# Altium footprint library Connectors-WR-PHD_Pin Header.PcbLib: 232 footprints (part 1 of 15)
Each footprint in its own frame and in the unit in brackets; x right, y up, seen from the top. Pads: shape width x height; smd on the part's side, far side on the other; paste and mask are expansions set on the pad; w line width, h text height; cw(c..) or ccw(c..) is an arc to the next point about the centre after c.
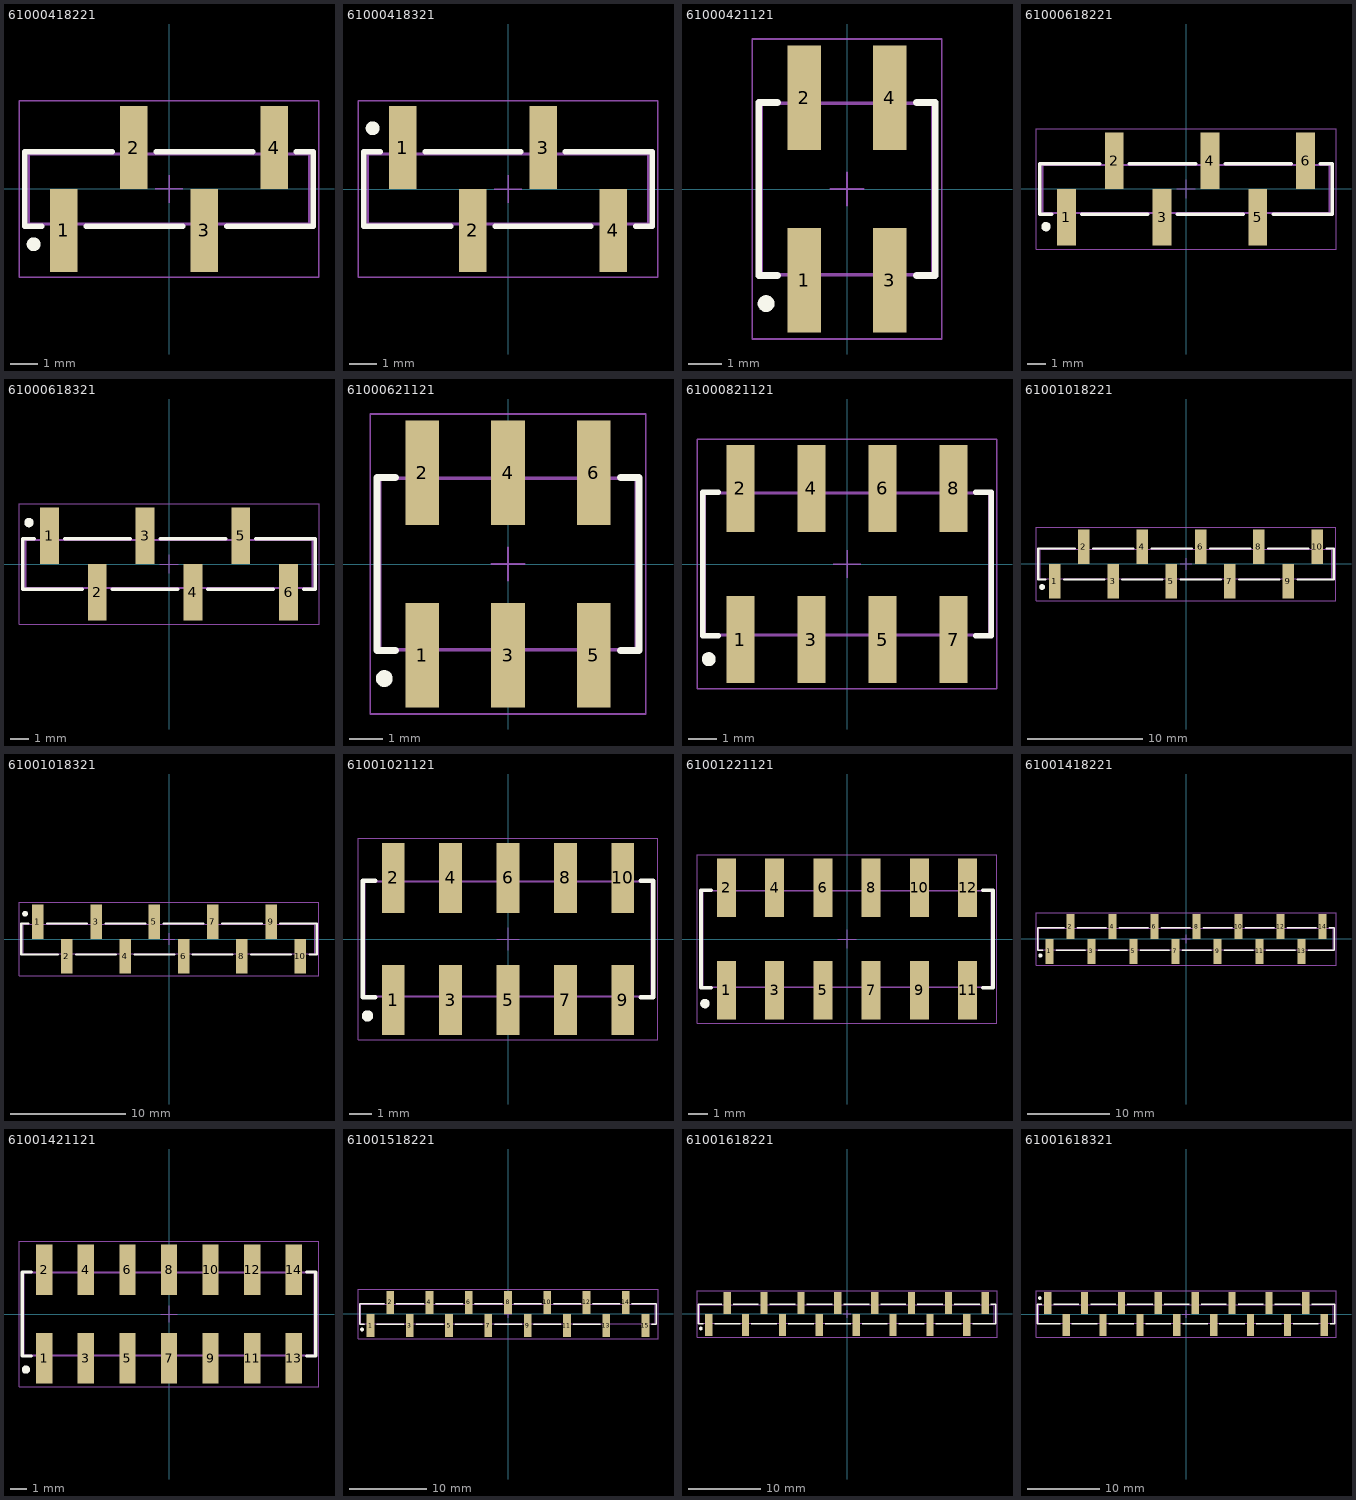
[diagram p0: the footprints below, top view; thin cyan lines are the x and y axes]

## 61000418221 [mm] "Pin Header, pitch 2.54 mm, SMD, Vertical, single row, 4p"
height 9.3
pads (4):
  rect 1x3 smd: 1(-3.81,-1.5) 2(-1.27,1.5) 3(1.27,-1.5) 4(3.81,1.5)
Top Overlay:
  circle w0.25: c-4.9,-2 r0.125
  lines w0.2: -4.6,-1.345 -5.23,-1.345 -5.23,1.345 -2.05,1.345 ; -3,-1.345 0.5,-1.345 ; -0.46,1.345 3.04,1.345 ; 2.1,-1.345 5.23,-1.345 5.23,1.345 4.6,1.345
Top Designator:
  text ".Designator" at -7.498,-0.5 h1.5
Top Component Outline:
  lines w0.1: -4.13,-1.27 -4.13,-2.5 -3.49,-2.5 -3.49,-1.27 ; -1.59,1.27 -1.59,2.5 -0.95,2.5 -0.95,1.27 ; 0.95,-1.27 0.95,-2.5 1.59,-2.5 1.59,-1.27 ; 3.49,1.27 3.49,2.5 4.13,2.5 4.13,1.27 ; -5.08,-1.27 -5.08,1.27 5.08,1.27 5.08,-1.27 -5.08,-1.27
Top Courtyard:
  lines w0.05: -5.43,-3.2 -5.43,3.2 5.43,3.2 5.43,-3.2 -5.43,-3.2
Top Component Center:
  lines w0.05: -0.5,0 0.5,0 ; 0,-0.5 0,0.5
3D body "61000418221.stp": height 9.33, standoff 0, extent -5.08,-2.5 5.08,2.5

## 61000418321 [mm] "Pin Header, pitch 2.54 mm, SMD, Vertical, single row, 4p"
height 9.3
pads (4):
  rect 1x3 smd: 1(-3.81,1.5) 2(-1.27,-1.5) 3(1.27,1.5) 4(3.81,-1.5)
Top Overlay:
  circle w0.25: c-4.9,2.2 r0.125
  lines w0.2: -4.63,1.345 -5.23,1.345 -5.23,-1.345 -2.07,-1.345 ; -2.99,1.345 0.47,1.345 ; -0.47,-1.345 2.99,-1.345 ; 2.07,1.345 5.23,1.345 5.23,-1.345 4.63,-1.345
Top Designator:
  text ".Designator" at -7.498,-0.5 h1.5
Top Component Outline:
  lines w0.1: -4.13,1.27 -4.13,2.5 -3.49,2.5 -3.49,1.27 ; -1.59,-1.27 -1.59,-2.5 -0.95,-2.5 -0.95,-1.27 ; 0.95,1.27 0.95,2.5 1.59,2.5 1.59,1.27 ; 3.49,-1.27 3.49,-2.5 4.13,-2.5 4.13,-1.27 ; -5.08,-1.27 5.08,-1.27 5.08,1.27 -5.08,1.27 -5.08,-1.27
Top Courtyard:
  lines w0.05: -5.43,-3.2 -5.43,3.2 5.43,3.2 5.43,-3.2 -5.43,-3.2
Top Component Center:
  lines w0.05: -0.5,0 0.5,0 ; 0,-0.5 0,0.5
3D body "61000418321.stp": height 9.37, standoff 0.04, extent -5.08,-2.5 5.08,2.5

## 61000421121 [mm] "Pin Header, pitch 2.54 mm, SMD, Vertical, dual row, 4p"
height 9.6
pads (4):
  rect 1x3.1 smd: 1(-1.27,-2.7) 2(-1.27,2.7) 3(1.27,-2.7) 4(1.27,2.7)
Top Overlay:
  circle w0.25: c-2.4,-3.4 r0.125
  lines w0.2: -2.065,-2.565 -2.615,-2.565 -2.615,2.565 -2.065,2.565 ; 2.065,-2.565 2.615,-2.565 2.615,2.565 2.065,2.565
Top Designator:
  text ".Designator" at -7.498,-0.5 h1.5
Top Component Outline:
  lines w0.1: -1.59,-2.54 -1.59,-3.75 -0.95,-3.75 -0.95,-2.54 ; -1.59,2.54 -1.59,3.75 -0.95,3.75 -0.95,2.54 ; 0.95,-2.54 0.95,-3.75 1.59,-3.75 1.59,-2.54 ; 0.95,2.54 0.95,3.75 1.59,3.75 1.59,2.54 ; -2.54,-2.54 -2.54,2.54 2.54,2.54 2.54,-2.54 -2.54,-2.54
Top Courtyard:
  lines w0.05: -2.815,-4.45 -2.815,4.45 2.815,4.45 2.815,-4.45 -2.815,-4.45
Top Component Center:
  lines w0.05: -0.5,0 0.5,0 ; 0,-0.5 0,0.5
3D body "61000421121.stp": height 9.62, standoff 0.02, extent -2.54,-3.75 2.54,3.75

## 61000618221 [mm] "Pin Header, pitch 2.54 mm, SMD, Vertical, single row, 6p"
height 9.3
pads (6):
  rect 1x3 smd: 1(-6.35,-1.5) 2(-3.81,1.5) 3(-1.27,-1.5) 4(1.27,1.5) 5(3.81,-1.5) 6(6.35,1.5)
Top Overlay:
  circle w0.25: c-7.44,-2 r0.125
  lines w0.2: -7.14,-1.345 -7.77,-1.345 -7.77,1.345 -4.59,1.345 ; -5.54,-1.345 -2.04,-1.345 ; -3,1.345 0.5,1.345 ; -0.46,-1.345 3.04,-1.345 ; 2.08,1.345 5.58,1.345 ; 4.64,-1.345 7.77,-1.345 7.77,1.345 7.14,1.345
Top Designator:
  text ".Designator" at -7.498,-0.5 h1.5
Top Component Outline:
  lines w0.1: -6.67,-1.27 -6.67,-2.5 -6.03,-2.5 -6.03,-1.27 ; -4.13,1.27 -4.13,2.5 -3.49,2.5 -3.49,1.27 ; -1.59,-1.27 -1.59,-2.5 -0.95,-2.5 -0.95,-1.27 ; 0.95,1.27 0.95,2.5 1.59,2.5 1.59,1.27 ; 3.49,-1.27 3.49,-2.5 4.13,-2.5 4.13,-1.27 ; 6.03,1.27 6.03,2.5 6.67,2.5 6.67,1.27 ; -7.62,-1.27 -7.62,1.27 7.62,1.27 7.62,-1.27 -7.62,-1.27
Top Courtyard:
  lines w0.05: -7.97,-3.2 7.97,-3.2 7.97,3.2 -7.97,3.2 -7.97,-3.2
Top Component Center:
  lines w0.05: -0.5,0 0.5,0 ; 0,-0.5 0,0.5
3D body "61000618221.stp": height 9.33, standoff 0, extent -7.62,-2.5 7.62,2.5

## 61000618321 [mm] "Pin Header, pitch 2.54 mm, SMD, Vertical, single row, 6p"
height 9.3
pads (6):
  rect 1x3 smd: 1(-6.35,1.5) 2(-3.81,-1.5) 3(-1.27,1.5) 4(1.27,-1.5) 5(3.81,1.5) 6(6.35,-1.5)
Top Overlay:
  circle w0.25: c-7.44,2.2 r0.125
  lines w0.2: -7.17,1.345 -7.77,1.345 -7.77,-1.345 -4.61,-1.345 ; -5.53,1.345 -2.07,1.345 ; -3.01,-1.345 0.45,-1.345 ; -0.45,1.345 3.01,1.345 ; 2.07,-1.345 5.53,-1.345 ; 4.61,1.345 7.77,1.345 7.77,-1.345 7.17,-1.345
Top Designator:
  text ".Designator" at -7.498,-0.5 h1.5
Top Component Outline:
  lines w0.1: -6.67,1.27 -6.67,2.5 -6.03,2.5 -6.03,1.27 ; -4.13,-1.27 -4.13,-2.5 -3.49,-2.5 -3.49,-1.27 ; -1.59,1.27 -1.59,2.5 -0.95,2.5 -0.95,1.27 ; 0.95,-1.27 0.95,-2.5 1.59,-2.5 1.59,-1.27 ; 3.49,1.27 3.49,2.5 4.13,2.5 4.13,1.27 ; 6.03,-1.27 6.03,-2.5 6.67,-2.5 6.67,-1.27 ; -7.62,-1.27 7.62,-1.27 7.62,1.27 -7.62,1.27 -7.62,-1.27
Top Courtyard:
  lines w0.05: -7.97,-3.2 7.97,-3.2 7.97,3.2 -7.97,3.2 -7.97,-3.2
Top Component Center:
  lines w0.05: -0.5,0 0.5,0 ; 0,-0.5 0,0.5
3D body "61000618321.stp": height 9.37, standoff 0.04, extent -7.62,-2.5 7.62,2.5

## 61000621121 [mm] "Pin Header, pitch 2.54 mm, SMD, Vertical, dual row, 6p"
height 9.6
pads (6):
  rect 1x3.1 smd: 1(-2.54,-2.7) 2(-2.54,2.7) 3(0,-2.7) 4(0,2.7) 5(2.54,-2.7) 6(2.54,2.7)
Top Overlay:
  circle w0.25: c-3.67,-3.4 r0.125
  lines w0.2: -3.335,-2.565 -3.885,-2.565 -3.885,2.565 -3.335,2.565 ; 3.335,-2.565 3.885,-2.565 3.885,2.565 3.335,2.565
Top Designator:
  text ".Designator" at -7.498,-0.5 h1.5
Top Component Outline:
  lines w0.1: -2.86,-2.54 -2.86,-3.75 -2.22,-3.75 -2.22,-2.54 ; -2.86,2.54 -2.86,3.75 -2.22,3.75 -2.22,2.54 ; -0.32,-2.54 -0.32,-3.75 0.32,-3.75 0.32,-2.54 ; -0.32,2.54 -0.32,3.75 0.32,3.75 0.32,2.54 ; 2.22,-2.54 2.22,-3.75 2.86,-3.75 2.86,-2.54 ; 2.22,2.54 2.22,3.75 2.86,3.75 2.86,2.54 ; -3.81,-2.54 -3.81,2.54 3.81,2.54 3.81,-2.54 -3.81,-2.54
Top Courtyard:
  lines w0.05: -4.085,-4.45 -4.085,4.45 4.085,4.45 4.085,-4.45 -4.085,-4.45
Top Component Center:
  lines w0.05: -0.5,0 0.5,0 ; 0,-0.5 0,0.5
3D body "61000621121.stp": height 9.62, standoff 0.02, extent -3.81,-3.75 3.81,3.75

## 61000821121 [mm] "Pin Header, pitch 2.54 mm, SMD, Vertical, dual row, 8p"
height 9.6
pads (8):
  rect 1x3.1 smd: 1(-3.81,-2.7) 2(-3.81,2.7) 3(-1.27,-2.7) 4(-1.27,2.7) 5(1.27,-2.7) 6(1.27,2.7) 7(3.81,-2.7) 8(3.81,2.7)
Top Overlay:
  circle w0.25: c-4.94,-3.4 r0.125
  lines w0.2: -4.605,-2.565 -5.155,-2.565 -5.155,2.565 -4.605,2.565 ; 4.605,-2.565 5.155,-2.565 5.155,2.565 4.605,2.565
Top Designator:
  text ".Designator" at -7.498,-0.5 h1.5
Top Component Outline:
  lines w0.1: -4.13,-2.54 -4.13,-3.75 -3.49,-3.75 -3.49,-2.54 ; -4.13,2.54 -4.13,3.75 -3.49,3.75 -3.49,2.54 ; -1.59,-2.54 -1.59,-3.75 -0.95,-3.75 -0.95,-2.54 ; -1.59,2.54 -1.59,3.75 -0.95,3.75 -0.95,2.54 ; 0.95,-2.54 0.95,-3.75 1.59,-3.75 1.59,-2.54 ; 0.95,2.54 0.95,3.75 1.59,3.75 1.59,2.54 ; 3.49,-2.54 3.49,-3.75 4.13,-3.75 4.13,-2.54 ; 3.49,2.54 3.49,3.75 4.13,3.75 4.13,2.54 ; -5.08,-2.54 5.08,-2.54 5.08,2.54 -5.08,2.54 -5.08,-2.54
Top Courtyard:
  lines w0.05: -5.355,-4.45 5.355,-4.45 5.355,4.45 -5.355,4.45 -5.355,-4.45
Top Component Center:
  lines w0.05: -0.5,0 0.5,0 ; 0,-0.5 0,0.5
3D body "61000821121.stp": height 9.62, standoff 0.02, extent -5.08,-3.75 5.08,3.75

## 61001018221 [mm] "Pin Header, pitch 2.54 mm, SMD, Vertical, single row, 10p"
height 9.3
pads (10):
  rect 1x3 smd: 1(-11.43,-1.5) 2(-8.89,1.5) 3(-6.35,-1.5) 4(-3.81,1.5) 5(-1.27,-1.5) 6(1.27,1.5) 7(3.81,-1.5) 8(6.35,1.5) 9(8.89,-1.5) 10(11.43,1.5)
Top Overlay:
  circle w0.25: c-12.52,-2 r0.125
  lines w0.2: -12.22,-1.345 -12.85,-1.345 -12.85,1.345 -9.67,1.345 ; -10.62,-1.345 -7.12,-1.345 ; -8.08,1.345 -4.58,1.345 ; -5.54,-1.345 -2.04,-1.345 ; -3,1.345 0.5,1.345 ; -0.46,-1.345 3.04,-1.345 ; 2.08,1.345 5.58,1.345 ; 4.62,-1.345 8.12,-1.345 ; 7.16,1.345 10.66,1.345 ; 9.72,-1.345 12.85,-1.345 12.85,1.345 12.22,1.345
Top Designator:
  text ".Designator" at -7.498,-0.5 h1.5
Top Component Outline:
  lines w0.1: -11.75,-1.27 -11.75,-2.5 -11.11,-2.5 -11.11,-1.27 ; -9.21,1.27 -9.21,2.5 -8.57,2.5 -8.57,1.27 ; -6.67,-1.27 -6.67,-2.5 -6.03,-2.5 -6.03,-1.27 ; -4.13,1.27 -4.13,2.5 -3.49,2.5 -3.49,1.27 ; -1.59,-1.27 -1.59,-2.5 -0.95,-2.5 -0.95,-1.27 ; 0.95,1.27 0.95,2.5 1.59,2.5 1.59,1.27 ; 3.49,-1.27 3.49,-2.5 4.13,-2.5 4.13,-1.27 ; 6.03,1.27 6.03,2.5 6.67,2.5 6.67,1.27 ; 8.57,-1.27 8.57,-2.5 9.21,-2.5 9.21,-1.27 ; 11.11,1.27 11.11,2.5 11.75,2.5 11.75,1.27 ; -12.7,-1.27 12.7,-1.27 12.7,1.27 -12.7,1.27 -12.7,-1.27
Top Courtyard:
  lines w0.05: -13.05,-3.2 13.05,-3.2 13.05,3.2 -13.05,3.2 -13.05,-3.2
Top Component Center:
  lines w0.05: -0.5,0 0.5,0 ; 0,-0.5 0,0.5
3D body "61001018221.stp": height 9.33, standoff 0, extent -12.7,-2.5 12.7,2.5

## 61001018321 [mm] "Pin Header, pitch 2.54 mm, SMD, Vertical, single row, 8p"
height 9.3
pads (10):
  rect 1x3 smd: 1(-11.43,1.5) 2(-8.89,-1.5) 3(-6.35,1.5) 4(-3.81,-1.5) 5(-1.27,1.5) 6(1.27,-1.5) 7(3.81,1.5) 8(6.35,-1.5) 9(8.89,1.5) 10(11.43,-1.5)
Top Overlay:
  circle w0.25: c-12.52,2.2 r0.125
  lines w0.2: -12.25,1.345 -12.85,1.345 -12.85,-1.345 -9.69,-1.345 ; -10.61,1.345 -7.15,1.345 ; -8.09,-1.345 -4.63,-1.345 ; -5.53,1.345 -2.07,1.345 ; -3.01,-1.345 0.45,-1.345 ; -0.45,1.345 3.01,1.345 ; 2.07,-1.345 5.53,-1.345 ; 4.63,1.345 8.09,1.345 ; 7.15,-1.345 10.61,-1.345 ; 9.69,1.345 12.85,1.345 12.85,-1.345 12.25,-1.345
Top Designator:
  text ".Designator" at -7.498,-0.5 h1.5
Top Component Outline:
  lines w0.1: -11.75,1.27 -11.75,2.5 -11.11,2.5 -11.11,1.27 ; -9.21,-1.27 -9.21,-2.5 -8.57,-2.5 -8.57,-1.27 ; -6.67,1.27 -6.67,2.5 -6.03,2.5 -6.03,1.27 ; -4.13,-1.27 -4.13,-2.5 -3.49,-2.5 -3.49,-1.27 ; -1.59,1.27 -1.59,2.5 -0.95,2.5 -0.95,1.27 ; 0.95,-1.27 0.95,-2.5 1.59,-2.5 1.59,-1.27 ; 3.49,1.27 3.49,2.5 4.13,2.5 4.13,1.27 ; 6.03,-1.27 6.03,-2.5 6.67,-2.5 6.67,-1.27 ; 8.57,1.27 8.57,2.5 9.21,2.5 9.21,1.27 ; 11.11,-1.27 11.11,-2.5 11.75,-2.5 11.75,-1.27 ; -12.7,-1.27 12.7,-1.27 12.7,1.27 -12.7,1.27 -12.7,-1.27
Top Courtyard:
  lines w0.05: -13.05,-3.2 -13.05,3.2 13.05,3.2 13.05,-3.2 -13.05,-3.2
Top Component Center:
  lines w0.05: -0.5,0 0.5,0 ; 0,-0.5 0,0.5
3D body "61001018321.stp": height 9.37, standoff 0.04, extent -12.7,-2.5 12.7,2.5

## 61001021121 [mm] "Pin Header, pitch 2.54 mm, SMD, Vertical, dual row, 10p"
height 9.6
pads (10):
  rect 1x3.1 smd: 1(-5.08,-2.7) 2(-5.08,2.7) 3(-2.54,-2.7) 4(-2.54,2.7) 5(0,-2.7) 6(0,2.7) 7(2.54,-2.7) 8(2.54,2.7) 9(5.08,-2.7) 10(5.08,2.7)
Top Overlay:
  circle w0.25: c-6.21,-3.4 r0.125
  lines w0.2: -5.875,-2.565 -6.425,-2.565 -6.425,2.565 -5.875,2.565 ; 5.875,-2.565 6.425,-2.565 6.425,2.565 5.875,2.565
Top Designator:
  text ".Designator" at -7.498,-0.5 h1.5
Top Component Outline:
  lines w0.1: -5.4,-2.54 -5.4,-3.75 -4.76,-3.75 -4.76,-2.54 ; -5.4,2.54 -5.4,3.75 -4.76,3.75 -4.76,2.54 ; -2.86,-2.54 -2.86,-3.75 -2.22,-3.75 -2.22,-2.54 ; -2.86,2.54 -2.86,3.75 -2.22,3.75 -2.22,2.54 ; -0.32,-2.54 -0.32,-3.75 0.32,-3.75 0.32,-2.54 ; -0.32,2.54 -0.32,3.75 0.32,3.75 0.32,2.54 ; 2.22,-2.54 2.22,-3.75 2.86,-3.75 2.86,-2.54 ; 2.22,2.54 2.22,3.75 2.86,3.75 2.86,2.54 ; 4.76,-2.54 4.76,-3.75 5.4,-3.75 5.4,-2.54 ; 4.76,2.54 4.76,3.75 5.4,3.75 5.4,2.54 ; -6.35,-2.54 6.35,-2.54 6.35,2.54 -6.35,2.54 -6.35,-2.54
Top Courtyard:
  lines w0.05: -6.625,-4.45 -6.625,4.45 6.625,4.45 6.625,-4.45 -6.625,-4.45
Top Component Center:
  lines w0.05: -0.5,0 0.5,0 ; 0,-0.5 0,0.5
3D body "61001021121.stp": height 9.62, standoff 0.02, extent -6.35,-3.75 6.35,3.75

## 61001221121 [mm] "Pin Header, pitch 2.54 mm, SMD, Vertical, dual row, 12p"
height 9.6
pads (12):
  rect 1x3.1 smd: 1(-6.35,-2.7) 2(-6.35,2.7) 3(-3.81,-2.7) 4(-3.81,2.7) 5(-1.27,-2.7) 6(-1.27,2.7) 7(1.27,-2.7) 8(1.27,2.7) 9(3.81,-2.7) 10(3.81,2.7) 11(6.35,-2.7) 12(6.35,2.7)
Top Overlay:
  circle w0.25: c-7.48,-3.4 r0.125
  lines w0.2: -7.145,-2.565 -7.695,-2.565 -7.695,2.565 -7.145,2.565 ; 7.145,-2.565 7.695,-2.565 7.695,2.565 7.145,2.565
Top Designator:
  text ".Designator" at -7.498,-0.5 h1.5
Top Component Outline:
  lines w0.1: -6.67,-2.54 -6.67,-3.75 -6.03,-3.75 -6.03,-2.54 ; -6.67,2.54 -6.67,3.75 -6.03,3.75 -6.03,2.54 ; -4.13,-2.54 -4.13,-3.75 -3.49,-3.75 -3.49,-2.54 ; -4.13,2.54 -4.13,3.75 -3.49,3.75 -3.49,2.54 ; -1.59,-2.54 -1.59,-3.75 -0.95,-3.75 -0.95,-2.54 ; -1.59,2.54 -1.59,3.75 -0.95,3.75 -0.95,2.54 ; 0.95,-2.54 0.95,-3.75 1.59,-3.75 1.59,-2.54 ; 0.95,2.54 0.95,3.75 1.59,3.75 1.59,2.54 ; 3.49,-2.54 3.49,-3.75 4.13,-3.75 4.13,-2.54 ; 3.49,2.54 3.49,3.75 4.13,3.75 4.13,2.54 ; 6.03,-2.54 6.03,-3.75 6.67,-3.75 6.67,-2.54 ; 6.03,2.54 6.03,3.75 6.67,3.75 6.67,2.54 ; -7.62,-2.54 -7.62,2.54 7.62,2.54 7.62,-2.54 -7.62,-2.54
Top Courtyard:
  lines w0.05: -7.895,-4.45 -7.895,4.45 7.895,4.45 7.895,-4.45 -7.895,-4.45
Top Component Center:
  lines w0.05: -0.5,0 0.5,0 ; 0,-0.5 0,0.5
3D body "61001221121.stp": height 9.62, standoff 0.02, extent -7.62,-3.75 7.62,3.75

## 61001418221 [mm] "Pin Header, pitch 2.54 mm, SMD, Vertical, single row, 14p"
height 9.3
pads (14):
  rect 1x3 smd: 1(-16.51,-1.5) 2(-13.97,1.5) 3(-11.43,-1.5) 4(-8.89,1.5) 5(-6.35,-1.5) 6(-3.81,1.5) 7(-1.27,-1.5) 8(1.27,1.5) 9(3.81,-1.5) 10(6.35,1.5) 11(8.89,-1.5) 12(11.43,1.5) 13(13.97,-1.5) 14(16.51,1.5)
Top Overlay:
  circle w0.25: c-17.6,-2 r0.125
  lines w0.2: -17.3,-1.345 -17.93,-1.345 -17.93,1.345 -14.75,1.345 ; -15.7,-1.345 -12.2,-1.345 ; -13.16,1.345 -9.66,1.345 ; -10.62,-1.345 -7.12,-1.345 ; -8.08,1.345 -4.58,1.345 ; -5.54,-1.345 -2.04,-1.345 ; -3,1.345 0.5,1.345 ; -0.46,-1.345 3.04,-1.345 ; 2.08,1.345 5.58,1.345 ; 4.62,-1.345 8.12,-1.345 ; 7.16,1.345 10.66,1.345 ; 9.7,-1.345 13.2,-1.345 ; 12.24,1.345 15.74,1.345 ; 14.8,-1.345 17.93,-1.345 17.93,1.345 17.3,1.345
Top Designator:
  text ".Designator" at -7.498,-0.5 h1.5
Top Component Outline:
  lines w0.1: -16.83,-1.27 -16.83,-2.5 -16.19,-2.5 -16.19,-1.27 ; -14.29,1.27 -14.29,2.5 -13.65,2.5 -13.65,1.27 ; -11.75,-1.27 -11.75,-2.5 -11.11,-2.5 -11.11,-1.27 ; -9.21,1.27 -9.21,2.5 -8.57,2.5 -8.57,1.27 ; -6.67,-1.27 -6.67,-2.5 -6.03,-2.5 -6.03,-1.27 ; -4.13,1.27 -4.13,2.5 -3.49,2.5 -3.49,1.27 ; -1.59,-1.27 -1.59,-2.5 -0.95,-2.5 -0.95,-1.27 ; 0.95,1.27 0.95,2.5 1.59,2.5 1.59,1.27 ; 3.49,-1.27 3.49,-2.5 4.13,-2.5 4.13,-1.27 ; 6.03,1.27 6.03,2.5 6.67,2.5 6.67,1.27 ; 8.57,-1.27 8.57,-2.5 9.21,-2.5 9.21,-1.27 ; 11.11,1.27 11.11,2.5 11.75,2.5 11.75,1.27 ; 13.65,-1.27 13.65,-2.5 14.29,-2.5 14.29,-1.27 ; 16.19,1.27 16.19,2.5 16.83,2.5 16.83,1.27 ; -17.78,-1.27 -17.78,1.27 17.78,1.27 17.78,-1.27 -17.78,-1.27
Top Courtyard:
  lines w0.05: -18.13,-3.2 -18.13,3.2 18.13,3.2 18.13,-3.2 -18.13,-3.2
Top Component Center:
  lines w0.05: -0.5,0 0.5,0 ; 0,-0.5 0,0.5
3D body "61001418221.stp": height 9.33, standoff 0, extent -17.78,-2.5 17.78,2.5

## 61001421121 [mm] "Pin Header, pitch 2.54 mm, SMD, Vertical, dual row, 14p"
height 9.6
pads (14):
  rect 1x3.1 smd: 1(-7.62,-2.7) 2(-7.62,2.7) 3(-5.08,-2.7) 4(-5.08,2.7) 5(-2.54,-2.7) 6(-2.54,2.7) 7(0,-2.7) 8(0,2.7) 9(2.54,-2.7) 10(2.54,2.7) 11(5.08,-2.7) 12(5.08,2.7) 13(7.62,-2.7) 14(7.62,2.7)
Top Overlay:
  circle w0.25: c-8.75,-3.4 r0.125
  lines w0.2: -8.415,-2.565 -8.965,-2.565 -8.965,2.565 -8.415,2.565 ; 8.415,-2.565 8.965,-2.565 8.965,2.565 8.415,2.565
Top Designator:
  text ".Designator" at -7.498,-0.5 h1.5
Top Component Outline:
  lines w0.1: -7.94,-2.54 -7.94,-3.75 -7.3,-3.75 -7.3,-2.54 ; -7.94,2.54 -7.94,3.75 -7.3,3.75 -7.3,2.54 ; -5.4,-2.54 -5.4,-3.75 -4.76,-3.75 -4.76,-2.54 ; -5.4,2.54 -5.4,3.75 -4.76,3.75 -4.76,2.54 ; -2.86,-2.54 -2.86,-3.75 -2.22,-3.75 -2.22,-2.54 ; -2.86,2.54 -2.86,3.75 -2.22,3.75 -2.22,2.54 ; -0.32,-2.54 -0.32,-3.75 0.32,-3.75 0.32,-2.54 ; -0.32,2.54 -0.32,3.75 0.32,3.75 0.32,2.54 ; 2.22,-2.54 2.22,-3.75 2.86,-3.75 2.86,-2.54 ; 2.22,2.54 2.22,3.75 2.86,3.75 2.86,2.54 ; 4.76,-2.54 4.76,-3.75 5.4,-3.75 5.4,-2.54 ; 4.76,2.54 4.76,3.75 5.4,3.75 5.4,2.54 ; 7.3,-2.54 7.3,-3.75 7.94,-3.75 7.94,-2.54 ; 7.3,2.54 7.3,3.75 7.94,3.75 7.94,2.54 ; -8.89,-2.54 -8.89,2.54 8.89,2.54 8.89,-2.54 -8.89,-2.54
Top Courtyard:
  lines w0.05: -9.165,-4.45 -9.165,4.45 9.165,4.45 9.165,-4.45 -9.165,-4.45
Top Component Center:
  lines w0.05: -0.5,0 0.5,0 ; 0,-0.5 0,0.5
3D body "61001421121.stp": height 9.62, standoff 0.02, extent -8.89,-3.75 8.89,3.75

## 61001518221 [mm] "Pin Header, pitch 2.54 mm, SMD, Vertical, single row, 15p"
height 9.3
pads (15):
  rect 1x3 smd: 1(-17.78,-1.5) 2(-15.24,1.5) 3(-12.7,-1.5) 4(-10.16,1.5) 5(-7.62,-1.5) 6(-5.08,1.5) 7(-2.54,-1.5) 8(0,1.5) 9(2.54,-1.5) 10(5.08,1.5) 11(7.62,-1.5) 12(10.16,1.5) 13(12.7,-1.5) 14(15.24,1.5) 15(17.78,-1.5)
Top Overlay:
  circle w0.25: c-18.87,-2 r0.125
  lines w0.2: -18.57,-1.345 -19.2,-1.345 -19.2,1.345 -16.02,1.345 ; -16.97,-1.345 -13.47,-1.345 ; -14.43,1.345 -10.93,1.345 ; -11.89,-1.345 -8.39,-1.345 ; -9.35,1.345 -5.85,1.345 ; -6.81,-1.345 -3.31,-1.345 ; -4.27,1.345 -0.77,1.345 ; -1.73,-1.345 1.77,-1.345 ; 0.81,1.345 4.31,1.345 ; 3.35,-1.345 6.85,-1.345 ; 5.89,1.345 9.39,1.345 ; 8.43,-1.345 11.93,-1.345 ; 10.97,1.345 14.47,1.345 ; 16.02,1.345 19.2,1.345 19.2,-1.345 18.57,-1.345
Top Designator:
  text ".Designator" at -7.498,-0.5 h1.5
Top Component Outline:
  lines w0.1: -18.1,-1.27 -18.1,-2.5 -17.46,-2.5 -17.46,-1.27 ; -15.56,1.27 -15.56,2.5 -14.92,2.5 -14.92,1.27 ; -13.02,-1.27 -13.02,-2.5 -12.38,-2.5 -12.38,-1.27 ; -10.48,1.27 -10.48,2.5 -9.84,2.5 -9.84,1.27 ; -7.94,-1.27 -7.94,-2.5 -7.3,-2.5 -7.3,-1.27 ; -5.4,1.27 -5.4,2.5 -4.76,2.5 -4.76,1.27 ; -2.86,-1.27 -2.86,-2.5 -2.22,-2.5 -2.22,-1.27 ; -0.32,1.27 -0.32,2.5 0.32,2.5 0.32,1.27 ; 2.22,-1.27 2.22,-2.5 2.86,-2.5 2.86,-1.27 ; 4.76,1.27 4.76,2.5 5.4,2.5 5.4,1.27 ; 7.3,-1.27 7.3,-2.5 7.94,-2.5 7.94,-1.27 ; 9.84,1.27 9.84,2.5 10.48,2.5 10.48,1.27 ; 12.38,-1.27 12.38,-2.5 13.02,-2.5 13.02,-1.27 ; 14.92,1.27 14.92,2.5 15.56,2.5 15.56,1.27 ; 17.46,-1.27 17.46,-2.5 18.1,-2.5 18.1,-1.27 ; -19.05,-1.27 19.05,-1.27 19.05,1.27 -19.05,1.27 -19.05,-1.27
Top Courtyard:
  lines w0.05: -19.4,-3.2 19.4,-3.2 19.4,3.2 -19.4,3.2 -19.4,-3.2
Top Component Center:
  lines w0.05: -0.5,0 0.5,0 ; 0,-0.5 0,0.5
3D body "61001518221.stp": height 9.33, standoff 0, extent -19.05,-2.5 19.05,2.5

## 61001618221 [mm] "Pin Header, pitch 2.54 mm, SMD, Vertical, single row, 16p"
height 9.3
pads (16):
  rect 1x3 smd: 1(-19.05,-1.5) 2(-16.51,1.5) 3(-13.97,-1.5) 4(-11.43,1.5) 5(-8.89,-1.5) 6(-6.35,1.5) 7(-3.81,-1.5) 8(-1.27,1.5) 9(1.27,-1.5) 10(3.81,1.5) 11(6.35,-1.5) 12(8.89,1.5) 13(11.43,-1.5) 14(13.97,1.5) 15(16.51,-1.5) 16(19.05,1.5)
Top Overlay:
  circle w0.25: c-20.14,-2 r0.125
  lines w0.2: -19.84,-1.345 -20.47,-1.345 -20.47,1.345 -17.29,1.345 ; -18.24,-1.345 -14.74,-1.345 ; -15.7,1.345 -12.2,1.345 ; -13.16,-1.345 -9.66,-1.345 ; -10.62,1.345 -7.12,1.345 ; -8.08,-1.345 -4.58,-1.345 ; -5.54,1.345 -2.04,1.345 ; -3,-1.345 0.5,-1.345 ; -0.46,1.345 3.04,1.345 ; 2.08,-1.345 5.58,-1.345 ; 4.62,1.345 8.12,1.345 ; 7.16,-1.345 10.66,-1.345 ; 9.7,1.345 13.2,1.345 ; 12.24,-1.345 15.74,-1.345 ; 14.78,1.345 18.28,1.345 ; 17.34,-1.345 20.47,-1.345 20.47,1.345 19.84,1.345
Top Designator:
  text ".Designator" at -7.498,-0.5 h1.5
Top Component Outline:
  lines w0.1: -19.37,-1.27 -19.37,-2.5 -18.73,-2.5 -18.73,-1.27 ; -16.83,1.27 -16.83,2.5 -16.19,2.5 -16.19,1.27 ; -14.29,-1.27 -14.29,-2.5 -13.65,-2.5 -13.65,-1.27 ; -11.75,1.27 -11.75,2.5 -11.11,2.5 -11.11,1.27 ; -9.21,-1.27 -9.21,-2.5 -8.57,-2.5 -8.57,-1.27 ; -6.67,1.27 -6.67,2.5 -6.03,2.5 -6.03,1.27 ; -4.13,-1.27 -4.13,-2.5 -3.49,-2.5 -3.49,-1.27 ; -1.59,1.27 -1.59,2.5 -0.95,2.5 -0.95,1.27 ; 0.95,-1.27 0.95,-2.5 1.59,-2.5 1.59,-1.27 ; 3.49,1.27 3.49,2.5 4.13,2.5 4.13,1.27 ; 6.03,-1.27 6.03,-2.5 6.67,-2.5 6.67,-1.27 ; 8.57,1.27 8.57,2.5 9.21,2.5 9.21,1.27 ; 11.11,-1.27 11.11,-2.5 11.75,-2.5 11.75,-1.27 ; 13.65,1.27 13.65,2.5 14.29,2.5 14.29,1.27 ; 16.19,-1.27 16.19,-2.5 16.83,-2.5 16.83,-1.27 ; 18.73,1.27 18.73,2.5 19.37,2.5 19.37,1.27 ; -20.32,-1.27 -20.32,1.27 20.32,1.27 20.32,-1.27 -20.32,-1.27
Top Courtyard:
  lines w0.05: -20.67,-3.2 20.67,-3.2 20.67,3.2 -20.67,3.2 -20.67,-3.2
Top Component Center:
  lines w0.05: -0.5,0 0.5,0 ; 0,-0.5 0,0.5
3D body "61001618221.stp": height 9.33, standoff 0, extent -20.32,-2.5 20.32,2.5

## 61001618321 [mm] "Pin Header, pitch 2.54 mm, SMD, Vertical, single row, 16p"
height 9.3
pads (16):
  rect 1x3 smd: 1(-19.05,1.5) 2(-16.51,-1.5) 3(-13.97,1.5) 4(-11.43,-1.5) 5(-8.89,1.5) 6(-6.35,-1.5) 7(-3.81,1.5) 8(-1.27,-1.5) 9(1.27,1.5) 10(3.81,-1.5) 11(6.35,1.5) 12(8.89,-1.5) 13(11.43,1.5) 14(13.97,-1.5) 15(16.51,1.5) 16(19.05,-1.5)
Top Overlay:
  circle w0.25: c-20.14,2.2 r0.125
  lines w0.2: -19.87,1.345 -20.47,1.345 -20.47,-1.345 -17.31,-1.345 ; -18.23,1.345 -14.77,1.345 ; -15.71,-1.345 -12.25,-1.345 ; -13.15,1.345 -9.69,1.345 ; -10.63,-1.345 -7.17,-1.345 ; -8.07,1.345 -4.61,1.345 ; -5.55,-1.345 -2.09,-1.345 ; -2.99,1.345 0.47,1.345 ; -0.47,-1.345 2.99,-1.345 ; 2.09,1.345 5.55,1.345 ; 4.61,-1.345 8.07,-1.345 ; 7.17,1.345 10.63,1.345 ; 9.69,-1.345 13.15,-1.345 ; 12.25,1.345 15.71,1.345 ; 14.77,-1.345 18.23,-1.345 ; 17.31,1.345 20.47,1.345 20.47,-1.345 19.87,-1.345
Top Designator:
  text ".Designator" at -7.498,-0.5 h1.5
Top Component Outline:
  lines w0.1: -19.37,1.27 -19.37,2.5 -18.73,2.5 -18.73,1.27 ; -16.83,-1.27 -16.83,-2.5 -16.19,-2.5 -16.19,-1.27 ; -14.29,1.27 -14.29,2.5 -13.65,2.5 -13.65,1.27 ; -11.75,-1.27 -11.75,-2.5 -11.11,-2.5 -11.11,-1.27 ; -9.21,1.27 -9.21,2.5 -8.57,2.5 -8.57,1.27 ; -6.67,-1.27 -6.67,-2.5 -6.03,-2.5 -6.03,-1.27 ; -4.13,1.27 -4.13,2.5 -3.49,2.5 -3.49,1.27 ; -1.59,-1.27 -1.59,-2.5 -0.95,-2.5 -0.95,-1.27 ; 0.95,1.27 0.95,2.5 1.59,2.5 1.59,1.27 ; 3.49,-1.27 3.49,-2.5 4.13,-2.5 4.13,-1.27 ; 6.03,1.27 6.03,2.5 6.67,2.5 6.67,1.27 ; 8.57,-1.27 8.57,-2.5 9.21,-2.5 9.21,-1.27 ; 11.11,1.27 11.11,2.5 11.75,2.5 11.75,1.27 ; 13.65,-1.27 13.65,-2.5 14.29,-2.5 14.29,-1.27 ; 16.19,1.27 16.19,2.5 16.83,2.5 16.83,1.27 ; 18.73,-1.27 18.73,-2.5 19.37,-2.5 19.37,-1.27 ; -20.32,-1.27 -20.32,1.27 20.32,1.27 20.32,-1.27 -20.32,-1.27
Top Courtyard:
  lines w0.05: -20.67,-3.2 20.67,-3.2 20.67,3.2 -20.67,3.2 -20.67,-3.2
Top Component Center:
  lines w0.05: -0.5,0 0.5,0 ; 0,-0.5 0,0.5
3D body "61001618321.stp": height 9.37, standoff 0.04, extent -20.32,-2.5 20.32,2.5